# Altium footprint library CN_SCKT2X5_RA.PcbLib: 1 footprints
Each footprint in its own frame and in the unit in brackets; x right, y up, seen from the top. Pads: shape width x height; smd on the part's side, far side on the other; paste and mask are expansions set on the pad; w line width, h text height; cw(c..) or ccw(c..) is an arc to the next point about the centre after c.
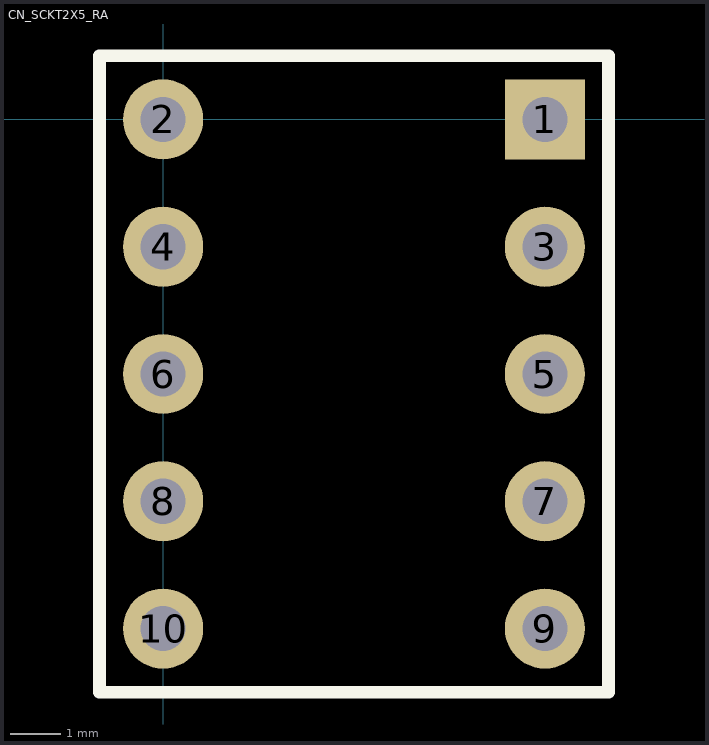
[diagram p0: the footprint, top view; thin cyan lines are the x and y axes]

## CN_SCKT2X5_RA [mm] "Harwin"
pads (10):
  rect 1.6x1.6 hole 0.9: 1(7.62,0)
  round 1.6 hole 0.9: 2(0,0) 3(7.62,-2.54) 4(0,-2.54) 5(7.62,-5.08) 6(0,-5.08) 7(7.62,-7.62) 8(0,-7.62) 9(7.62,-10.16) 10(0,-10.16)
Top Overlay:
  lines w0.254: -1.27,-11.43 3.81,-11.43 8.89,-11.43 8.89,1.27 3.81,1.27 -1.27,1.27 -1.27,-11.43
3D body: height 5.9, standoff -3, extent -0.246,-11.53 7.874,1.37